# EAGLE library part UEI15-120 (library custom-devices)
Isolated Wide Input Range 15-Watt DC/DC Converter UEI15-120-Q12P-C
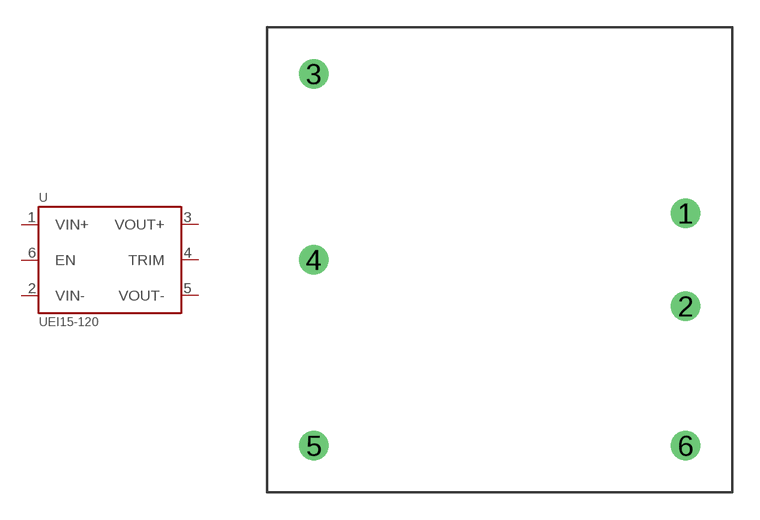
[diagram p34: symbol with the pads of P85; footprint P85]

Designator prefix -

## UEI15-120_TH (DIGI-KEY: 811-1868-5-ND)  [P85]
1  VIN+  pwr
2  VIN-  pwr
3  VOUT+  pwr
4  TRIM  pwr
5  VOUT-  pwr
6  EN  pas

## Footprint P85 (pad centres in mm)
drill 1.067: 1 10.16,2.54; 2 10.16,-2.54; 3 -10.16,10.16; 4 -10.16,0; 5 -10.16,-10.16; 6 10.16,-10.16